# EAGLE library part 101-00178 (library con-amphenol_jb)
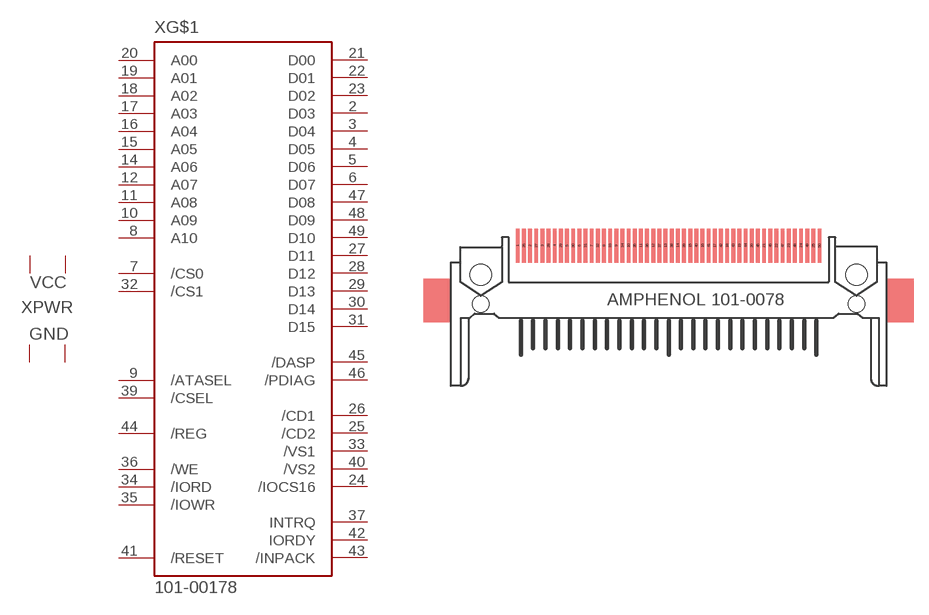
[diagram p0: symbol with the pads of 101-00178; footprint 101-00178]

Designator prefix X; gates G$1=101-00178 PWR=PWR

## 101-00178  [101-00178]
1  PWR:GND1  pwr
2  G$1:D03
3  G$1:D04
4  G$1:D05
5  G$1:D06
6  G$1:D07
7  G$1:/CS0  in
8  G$1:A10  in
9  G$1:/ATASEL  in
10  G$1:A09  in
11  G$1:A08  in
12  G$1:A07  in
13  PWR:VCC1  pwr
14  G$1:A06  in
15  G$1:A05  in
16  G$1:A04  in
17  G$1:A03  in
18  G$1:A02  in
19  G$1:A01  in
20  G$1:A00  in
21  G$1:D00
22  G$1:D01
23  G$1:D02
24  G$1:/IOCS16  out
25  G$1:/CD2  out
26  G$1:/CD1  out
27  G$1:D11
28  G$1:D12
29  G$1:D13
30  G$1:D14
31  G$1:D15
32  G$1:/CS1  in
33  G$1:/VS1  out
34  G$1:/IORD  in
35  G$1:/IOWR  in
36  G$1:/WE  in
37  G$1:INTRQ  out
38  PWR:VCC2  pwr
39  G$1:/CSEL  in
40  G$1:/VS2  out
41  G$1:/RESET  in
42  G$1:IORDY  out
43  G$1:/INPACK  out
44  G$1:/REG  in
45  G$1:/DASP
46  G$1:/PDIAG
47  G$1:D08
48  G$1:D09
49  G$1:D10
50  PWR:GND2  pwr

## Footprint 101-00178 (pad centres in mm)
CONNECTOR PCMCIA-CompactFlash
smd 0.4 x 3.5: 1 -15.557,6.015; 2 -14.287,6.015; 3 -13.018,6.015; 4 -11.748,6.015; 5 -10.477,6.015; 6 -9.207,6.015; 7 -7.938,6.015; 8 -6.668,6.015; 9 -5.397,6.015; 10 -4.128,6.015; 11 -2.857,6.015; 12 -1.587,6.015; 13 -0.318,6.015; 14 0.953,6.015; 15 2.223,6.015; 16 3.493,6.015; 17 4.763,6.015; 18 6.032,6.015; 19 7.303,6.015; 20 8.572,6.015; 21 9.842,6.015; 22 11.113,6.015; 23 12.383,6.015; 24 13.652,6.015; 25 14.922,6.015; 26 -14.922,6.015; 27 -13.652,6.015; 28 -12.383,6.015; 29 -11.113,6.015; 30 -9.842,6.015; 31 -8.572,6.015; 32 -7.303,6.015; 33 -6.032,6.015; 34 -4.763,6.015; 35 -3.493,6.015; 36 -2.223,6.015; 37 -0.953,6.015; 38 0.318,6.015; 39 1.587,6.015; 40 2.857,6.015; 41 4.128,6.015; 42 5.397,6.015; 43 6.668,6.015; 44 7.938,6.015; 45 9.207,6.015; 46 10.477,6.015; 47 11.748,6.015; 48 13.018,6.015; 49 14.287,6.015; 50 15.557,6.015
hole 1.7 at -19.37,0
hole 1.7 at 19.37,0
hole 2.2 at -19.37,3
hole 2.2 at 19.37,3